# Altium integrated library MMBT2222_.IntLib: 1 symbol
Pins are listed as number, name and electrical type; pins without a type are passive.

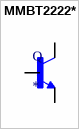
[diagram p0: symbol MMBT2222*]

## MMBT2222*
designator Q
Bipolar _BJT_ Transistor NPN 30V 600mA 250MHz 350mW Surface Mount SOT-23-3; MF: ON Semiconductor; MP: MMBT2222; Package: SOT-23-3 Fairchild Semiconductor; Value: *; Price: None; Availability: Unavailable; SnapEDA_Link: https://www.snapeda.com/parts/MMBT2222/ON%20Semiconductor/view-part/214298/?ref=snap
footprint SOT23-BEC
pins: B, C, E